# Altium schematic symbol library SMA_SMD.SchLib: 2 symbols
Pins are listed as number, name and electrical type; pins without a type are passive.

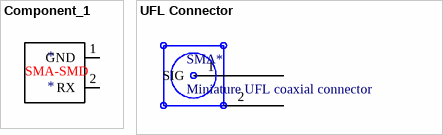
[diagram p0: symbols Component_1 to UFL Connector]

## Component_1
designator *
footprint PCBComponent_1
pins: 1 GND, 2 RX
text: SMA-SMD

## UFL Connector
designator SMA*, comment Miniature UFL coaxial connector
Ultra Miniature Coaxial Connector Jack, Male Pin 50 Ohm Surface Mount Solder; Manufacturer: TE Connectivity AMP Connectors; Manufacturer Part Number: 1909763-1; Digi-Key Part Number: A118077CT-ND
footprint UFL Connector
pins: 1 SIG, 2 GND